# Altium footprint library Test Points.PcbLib: 1 footprints
Each footprint in its own frame and in the unit in brackets; x right, y up, seen from the top. Pads: shape width x height; smd on the part's side, far side on the other; paste and mask are expansions set on the pad; w line width, h text height; cw(c..) or ccw(c..) is an arc to the next point about the centre after c.
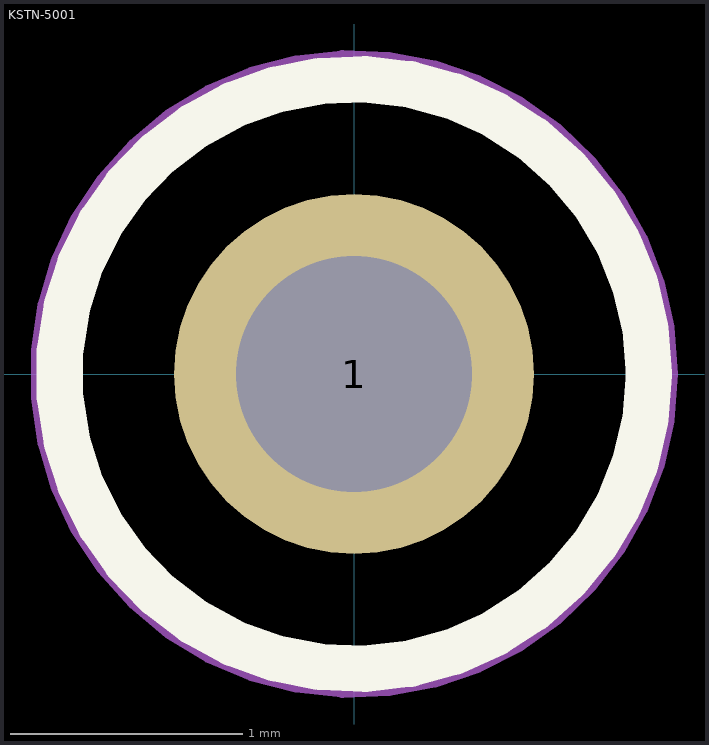
[diagram p0: the footprint, top view; thin cyan lines are the x and y axes]

## KSTN-5001 [mm] "Test Point, Through Hole, Dia 2.54mm"
height 4.57
pads (1):
  round 1.55 hole 1.016: 1(0,0)
Top Overlay:
  circle w0.2: c0,0 r1.27
Mechanical 13:
  circle w0.1: c0,0 r1.27
Mechanical 15:
  circle w0.05: c0,0 r1.37
  lines w0.1: -0.5,0 0.5,0 -0.5,0 ; 0,-0.5 0,0.5 0,-0.5
3D body "Keystone_5001.stp": height 4.62, standoff -3, extent -1.254,-1.247 1.246,1.253